# EAGLE library part 79109-48 (library con-molex-milli-grid)
RECEPTACAL
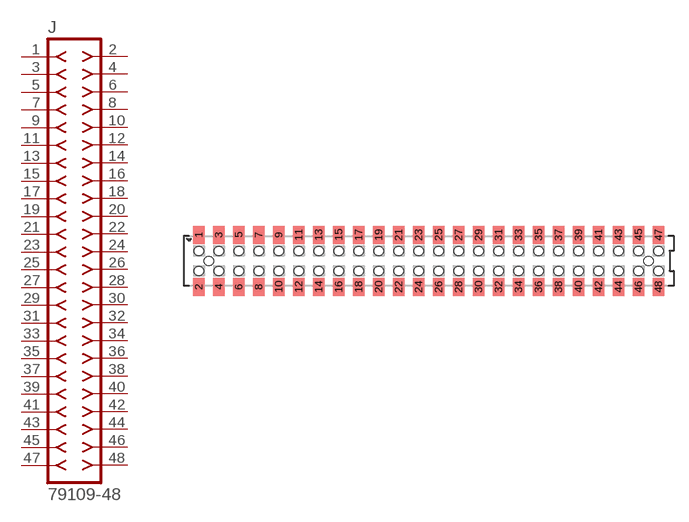
[diagram p181: symbol with the pads of 79109-48; footprint 79109-48]

Designator prefix J

## 79109-48  [79109-48]
1  1  pas
2  2  pas
3  3  pas
4  4  pas
5  5  pas
6  6  pas
7  7  pas
8  8  pas
9  9  pas
10  10  pas
11  11  pas
12  12  pas
13  13  pas
14  14  pas
15  15  pas
16  16  pas
17  17  pas
18  18  pas
19  19  pas
20  20  pas
21  21  pas
22  22  pas
23  23  pas
24  24  pas
25  25  pas
26  26  pas
27  27  pas
28  28  pas
29  29  pas
30  30  pas
31  31  pas
32  32  pas
33  33  pas
34  34  pas
35  35  pas
36  36  pas
37  37  pas
38  38  pas
39  39  pas
40  40  pas
41  41  pas
42  42  pas
43  43  pas
44  44  pas
45  45  pas
46  46  pas
47  47  pas
48  48  pas

## Footprint 79109-48 (pad centres in mm)
RECEPTACAL SMD Dual Row, Vertical, Pass-Thru
smd 1.12 x 1.83: 1 -23,2.6; 2 -23,-2.6; 3 -21,2.6; 4 -21,-2.6; 5 -19,2.6; 6 -19,-2.6; 7 -17,2.6; 8 -17,-2.6; 9 -15,2.6; 10 -15,-2.6; 11 -13,2.6; 12 -13,-2.6; 13 -11,2.6; 14 -11,-2.6; 15 -9,2.6; 16 -9,-2.6; 17 -7,2.6; 18 -7,-2.6; 19 -5,2.6; 20 -5,-2.6; 21 -3,2.6; 22 -3,-2.6; 23 -1,2.6; 24 -1,-2.6; 25 1,2.6; 26 1,-2.6; 27 3,2.6; 28 3,-2.6; 29 5,2.6; 30 5,-2.6; 31 7,2.6; 32 7,-2.6; 33 9,2.6; 34 9,-2.6; 35 11,2.6; 36 11,-2.6; 37 13,2.6; 38 13,-2.6; 39 15,2.6; 40 15,-2.6; 41 17,2.6; 42 17,-2.6; 43 19,2.6; 44 19,-2.6; 45 21,2.6; 46 21,-2.6; 47 23,2.6; 48 23,-2.6
hole 0.914 at -22,0
hole 0.914 at -23,1
hole 0.914 at -23,-1
hole 0.914 at -21,-1
hole 0.914 at -21,1
hole 0.914 at -19,-1
hole 0.914 at -19,1
hole 0.914 at -17,1
hole 0.914 at -17,-1
hole 0.914 at -15,1
hole 0.914 at -15,-1
hole 0.914 at -13,1
hole 0.914 at -13,-1
hole 0.914 at -11,1
hole 0.914 at -11,-1
hole 0.914 at -9,-1
hole 0.914 at -9,1
hole 0.914 at -7,1
hole 0.914 at -7,-1
hole 0.914 at -5,1
hole 0.914 at -5,-1
hole 0.914 at -3,1
hole 0.914 at -3,-1
hole 0.914 at -1,-1
hole 0.914 at -1,1
hole 0.914 at 1,1
hole 0.914 at 3,1
hole 0.914 at 5,1
hole 0.914 at 1,-1
hole 0.914 at 3,-1
hole 0.914 at 5,-1
hole 0.914 at 7,-1
hole 0.914 at 9,-1
hole 0.914 at 11,-1
hole 0.914 at 13,-1
hole 0.914 at 15,-1
hole 0.914 at 7,1
hole 0.914 at 9,1
hole 0.914 at 11,1
hole 0.914 at 13,1
hole 0.914 at 15,1
hole 0.914 at 17,-1
hole 0.914 at 19,-1
hole 0.914 at 17,1
hole 0.914 at 19,1
hole 0.914 at 21,1
hole 0.914 at 23,1
hole 0.914 at 21,-1
hole 0.914 at 23,-1
hole 0.914 at 22,0